# EAGLE library part IC_QFX24 (library dp_devices)
Universal Quad Flat Pack/Leadless 24 pins
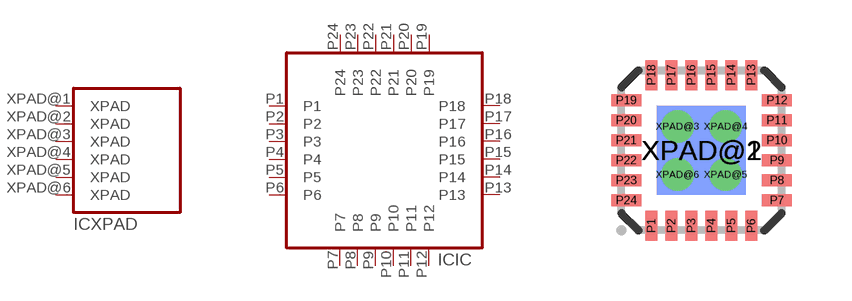
[diagram p139: symbol with the pads of QFN24_4X4; footprint QFN24_4X4]

Designator prefix IC; gates IC=QFX-24 XPAD=QFX-XPAD-6

## IC_QFX24-QFN24_4X4  [QFN24_4X4]
P1  IC:P1  pas
P2  IC:P2  pas
P3  IC:P3  pas
P4  IC:P4  pas
P5  IC:P5  pas
P6  IC:P6  pas
P7  IC:P7  pas
P8  IC:P8  pas
P9  IC:P9  pas
P10  IC:P10  pas
P11  IC:P11  pas
P12  IC:P12  pas
P13  IC:P13  pas
P14  IC:P14  pas
P15  IC:P15  pas
P16  IC:P16  pas
P17  IC:P17  pas
P18  IC:P18  pas
P19  IC:P19  pas
P20  IC:P20  pas
P21  IC:P21  pas
P22  IC:P22  pas
P23  IC:P23  pas
P24  IC:P24  pas
XPAD@1  XPAD:XPAD  pas
XPAD@2  XPAD:XPAD  pas
XPAD@3  XPAD:XPAD  pas
XPAD@4  XPAD:XPAD  pas
XPAD@5  XPAD:XPAD  pas
XPAD@6  XPAD:XPAD  pas

## Footprint QFN24_4X4 (pad centres in mm)
QFN 24 Body: 4 x 4 mm Pitch: 0.50 mm Based on: MAXIM's G2044-3 <http://pdfserv.maximintegrated.com/package_dwgs/21-0106.PDF>
smd 0.3 x 0.75: P1 -1.25,-1.885; P2 -0.75,-1.885; P3 -0.25,-1.885; P4 0.25,-1.885; P5 0.75,-1.885; P6 1.25,-1.885; P13 1.25,1.885; P14 0.75,1.885; P15 0.25,1.885; P16 -0.25,1.885; P17 -0.75,1.885; P18 -1.25,1.885
smd 0.75 x 0.3: P7 1.885,-1.25; P8 1.885,-0.75; P9 1.885,-0.25; P10 1.885,0.25; P11 1.885,0.75; P12 1.885,1.25; P19 -1.885,1.25; P20 -1.885,0.75; P21 -1.885,0.25; P22 -1.885,-0.25; P23 -1.885,-0.75; P24 -1.885,-1.25
smd 2.22 x 2.22: XPAD@1 0,0
smd 2.22 x 2.22 bottom: XPAD@2 0,0
drill 0.305 round: XPAD@3 -0.602,0.602; XPAD@4 0.602,0.602; XPAD@5 0.602,-0.602; XPAD@6 -0.602,-0.602